# EAGLE library part CS8900A-CQ3Z (library Cirrus_Logic_By_element14_Batch_1)
Crystal LAN Ethernet Controller
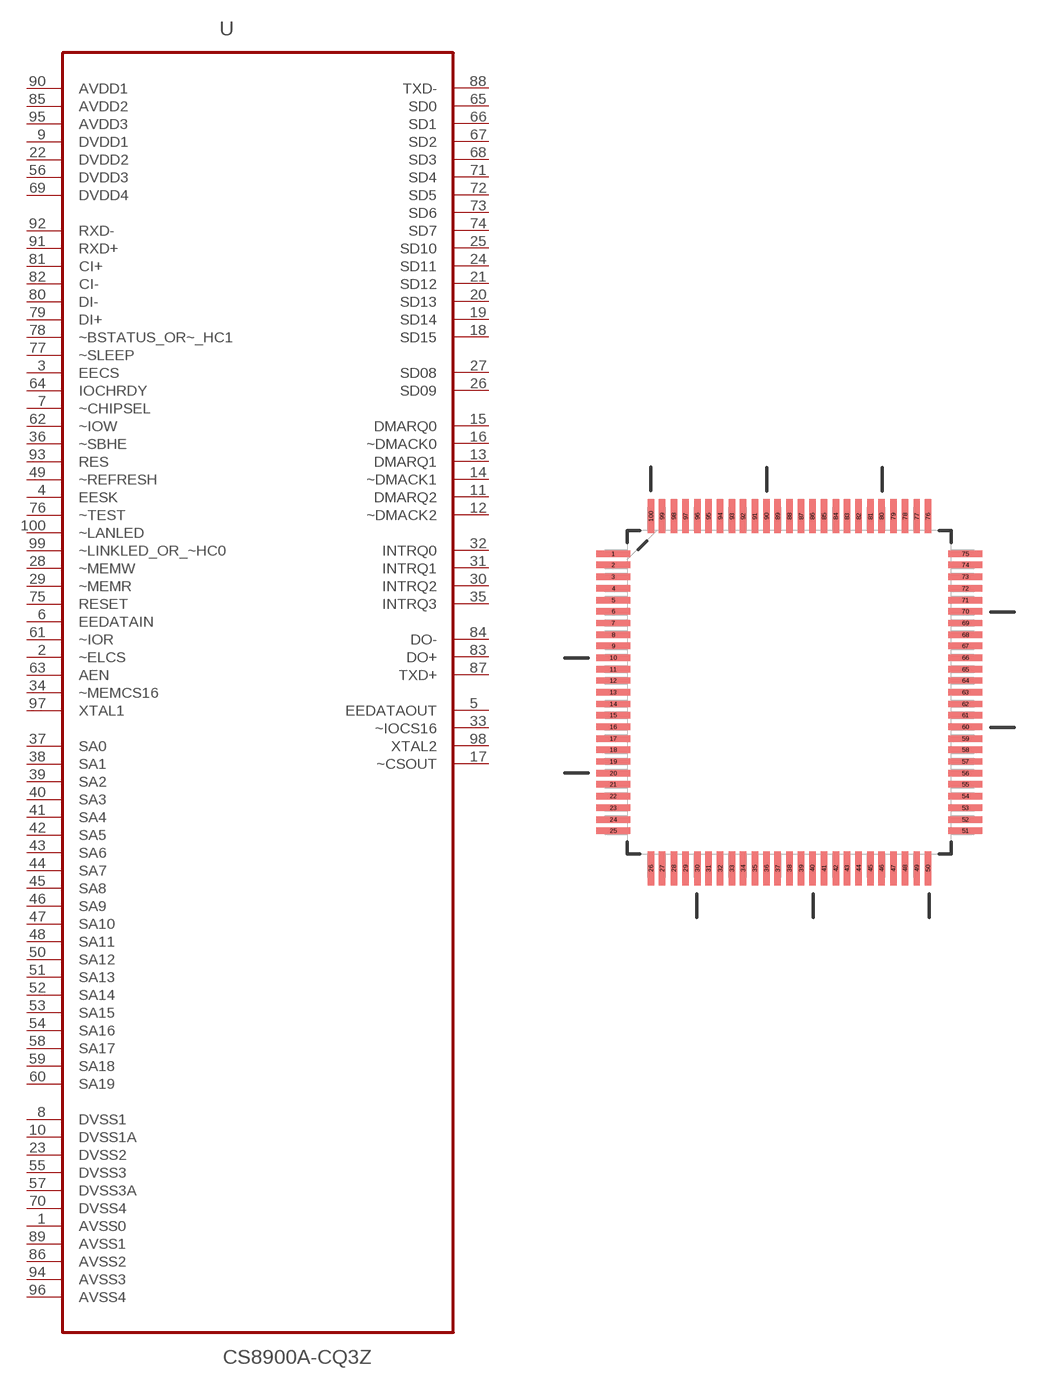
[diagram p9: symbol with the pads of QFP50P1600X1600X160-100N; footprint QFP50P1600X1600X160-100N]

Designator prefix U

## CS8900A-CQ3Z (DESCRIPTION: Crystal LAN Ethernet Controller; MPN: CS8900A-CQ3Z; OC_FARNELL: 1023455; OC_NEWARK: 72J5561; PACKAGE: LQFP-100; SUPPLIER: CIRRUS LOGIC)  [QFP50P1600X1600X160-100N]
1  AVSS0  pwr
2  ~ELCS  in
3  EECS  in
4  EESK  in
5  EEDATAOUT  out
6  EEDATAIN  in
7  ~CHIPSEL  in
8  DVSS1  pwr
9  DVDD1  pwr
10  DVSS1A  pwr
11  DMARQ2  hiz
12  ~DMACK2  hiz
13  DMARQ1  hiz
14  ~DMACK1  hiz
15  DMARQ0  hiz
16  ~DMACK0  hiz
17  ~CSOUT  out
18  SD15  hiz
19  SD14  hiz
20  SD13  hiz
21  SD12  hiz
22  DVDD2  pwr
23  DVSS2  pwr
24  SD11  hiz
25  SD10  hiz
26  SD09  hiz
27  SD08  hiz
28  ~MEMW  in
29  ~MEMR  in
30  INTRQ2  out
31  INTRQ1  out
32  INTRQ0  out
33  ~IOCS16  out
34  ~MEMCS16  in
35  INTRQ3  out
36  ~SBHE  in
37  SA0  in
38  SA1  in
39  SA2  in
40  SA3  in
41  SA4  in
42  SA5  in
43  SA6  in
44  SA7  in
45  SA8  in
46  SA9  in
47  SA10  in
48  SA11  in
49  ~REFRESH  in
50  SA12  in
51  SA13  in
52  SA14  in
53  SA15  in
54  SA16  in
55  DVSS3  pwr
56  DVDD3  pwr
57  DVSS3A  pwr
58  SA17  in
59  SA18  in
60  SA19  in
61  ~IOR  in
62  ~IOW  in
63  AEN  in
64  IOCHRDY  in
65  SD0  hiz
66  SD1  hiz
67  SD2  hiz
68  SD3  hiz
69  DVDD4  pwr
70  DVSS4  pwr
71  SD4  hiz
72  SD5  hiz
73  SD6  hiz
74  SD7  hiz
75  RESET  in
76  ~TEST  in
77  ~SLEEP  in
78  ~BSTATUS_OR~_HC1  in
79  DI+  in
80  DI-  in
81  CI+  in
82  CI-  in
83  DO+  out
84  DO-  out
85  AVDD2  pwr
86  AVSS2  pwr
87  TXD+  out
88  TXD-  out
89  AVSS1  pwr
90  AVDD1  pwr
91  RXD+  in
92  RXD-  in
93  RES  in
94  AVSS3  pwr
95  AVDD3  pwr
96  AVSS4  pwr
97  XTAL1  in
98  XTAL2  out
99  ~LINKLED_OR_~HC0  pas
100  ~LANLED  pas

## Footprint QFP50P1600X1600X160-100N (pad centres in mm)
smd 1.473 x 0.279: 1 -7.62,5.994; 2 -7.62,5.512; 3 -7.62,5.004; 4 -7.62,4.496; 5 -7.62,3.988; 6 -7.62,3.505; 7 -7.62,2.997; 8 -7.62,2.489; 9 -7.62,2.007; 10 -7.62,1.499; 11 -7.62,0.991; 12 -7.62,0.508; 13 -7.62,0; 14 -7.62,-0.508; 15 -7.62,-0.991; 16 -7.62,-1.499; 17 -7.62,-2.007; 18 -7.62,-2.489; 19 -7.62,-2.997; 20 -7.62,-3.505; 21 -7.62,-3.988; 22 -7.62,-4.496; 23 -7.62,-5.004; 24 -7.62,-5.512; 25 -7.62,-5.994; 51 7.62,-5.994; 52 7.62,-5.512; 53 7.62,-5.004; 54 7.62,-4.496; 55 7.62,-3.988; 56 7.62,-3.505; 57 7.62,-2.997; 58 7.62,-2.489; 59 7.62,-2.007; 60 7.62,-1.499; 61 7.62,-0.991; 62 7.62,-0.508; 63 7.62,0; 64 7.62,0.508; 65 7.62,0.991; 66 7.62,1.499; 67 7.62,2.007; 68 7.62,2.489; 69 7.62,2.997; 70 7.62,3.505; 71 7.62,3.988; 72 7.62,4.496; 73 7.62,5.004; 74 7.62,5.512; 75 7.62,5.994
smd 0.279 x 1.473: 26 -5.994,-7.62; 27 -5.512,-7.62; 28 -5.004,-7.62; 29 -4.496,-7.62; 30 -3.988,-7.62; 31 -3.505,-7.62; 32 -2.997,-7.62; 33 -2.489,-7.62; 34 -2.007,-7.62; 35 -1.499,-7.62; 36 -0.991,-7.62; 37 -0.508,-7.62; 38 0,-7.62; 39 0.508,-7.62; 40 0.991,-7.62; 41 1.499,-7.62; 42 2.007,-7.62; 43 2.489,-7.62; 44 2.997,-7.62; 45 3.505,-7.62; 46 3.988,-7.62; 47 4.496,-7.62; 48 5.004,-7.62; 49 5.512,-7.62; 50 5.994,-7.62; 76 5.994,7.62; 77 5.512,7.62; 78 5.004,7.62; 79 4.496,7.62; 80 3.988,7.62; 81 3.505,7.62; 82 2.997,7.62; 83 2.489,7.62; 84 2.007,7.62; 85 1.499,7.62; 86 0.991,7.62; 87 0.508,7.62; 88 0,7.62; 89 -0.508,7.62; 90 -0.991,7.62; 91 -1.499,7.62; 92 -2.007,7.62; 93 -2.489,7.62; 94 -2.997,7.62; 95 -3.505,7.62; 96 -3.988,7.62; 97 -4.496,7.62; 98 -5.004,7.62; 99 -5.512,7.62; 100 -5.994,7.62